# Altium schematic symbol library SHILD_s.SchLib: 13 symbols
Pins are listed as number, name and electrical type; pins without a type are passive.

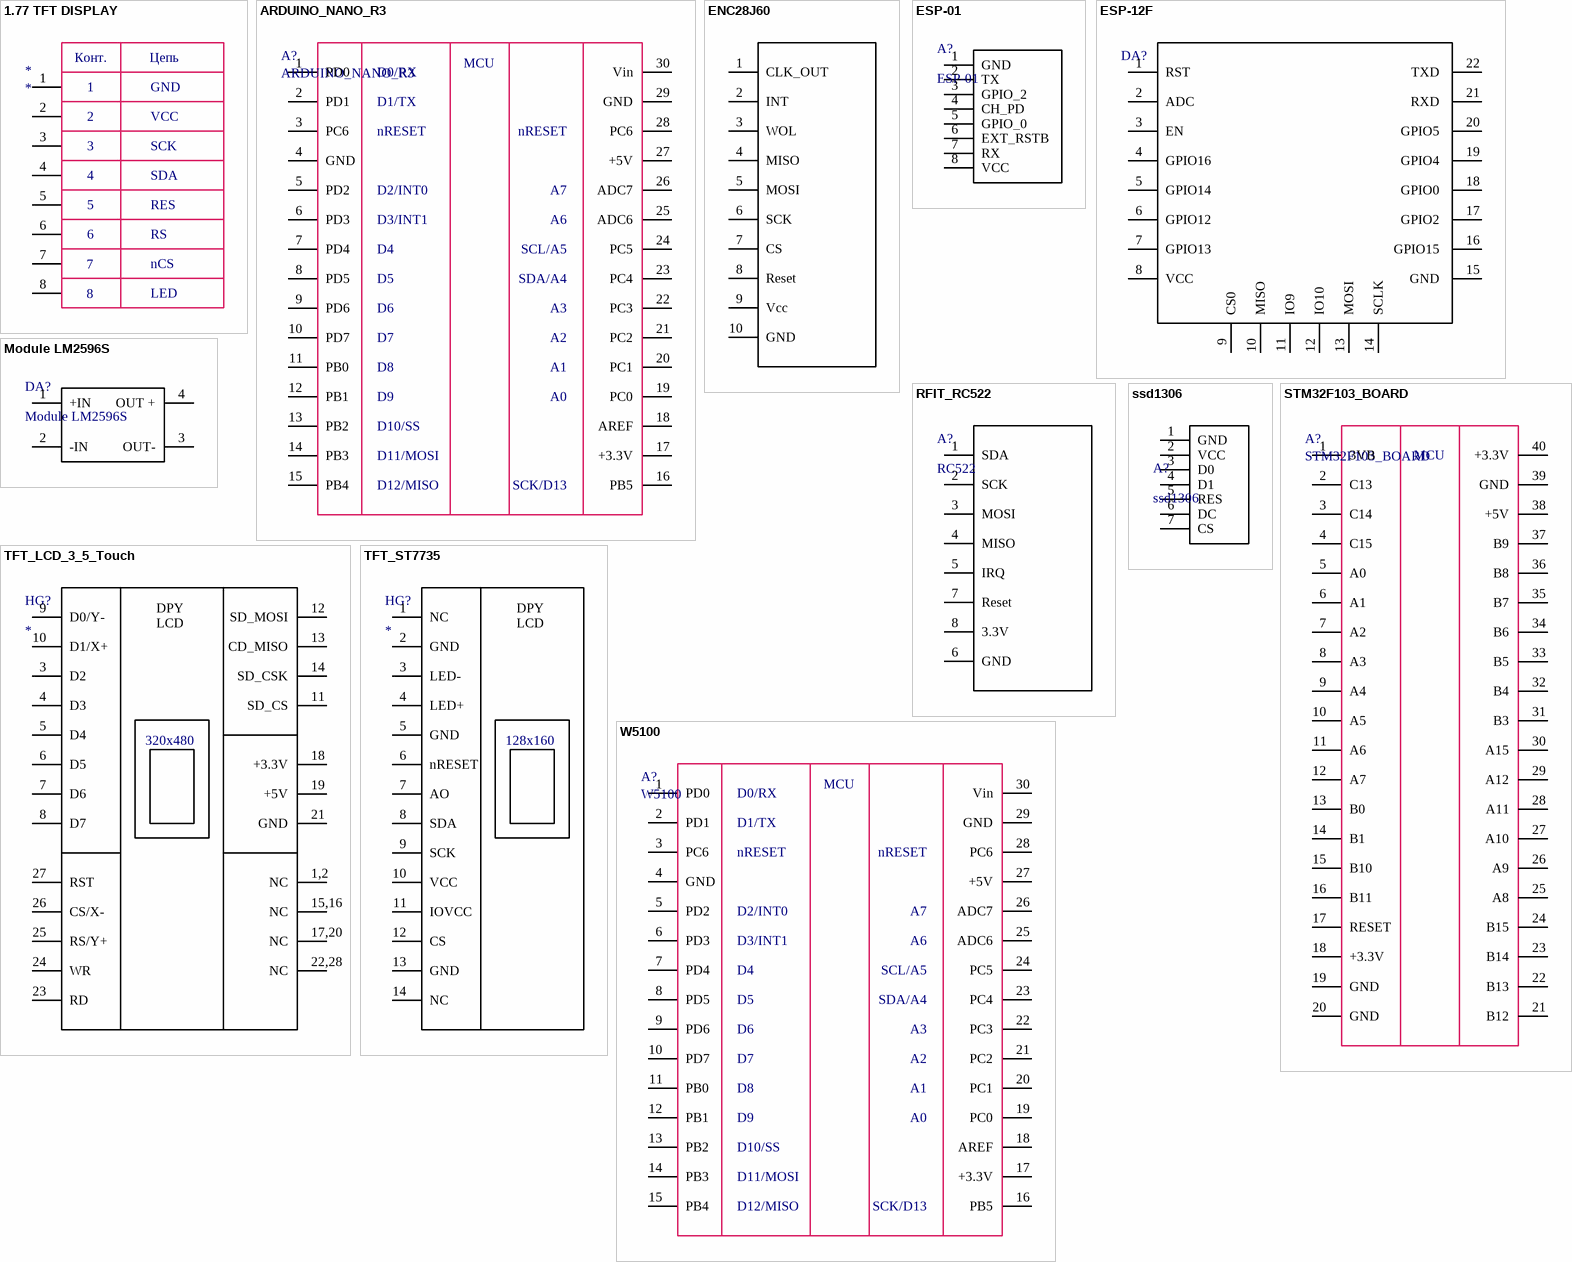
[diagram p0: symbols 1.77 TFT DISPLAY to W5100]

## 1.77 TFT DISPLAY
designator *
footprint ST7735S_board
pins: 1, 2, 3, 4, 5, 6, 7, 8
text: Конт.; Цепь; GND; VCC; SCK; SDA; RES; RS; nCS; LED

## ARDUINO_NANO_R3
designator A?
footprint ARDUINO_NANO_R3
pins: 1 PD0, 2 PD1, 3 PC6, 4 GND, 5 PD2, 6 PD3, 7 PD4, 8 PD5, 9 PD6, 10 PD7, 11 PB0, 12 PB1, 13 PB2, 14 PB3, 15 PB4, 16 PB5, 17 +3.3V, 18 AREF, 19 PC0, 20 PC1, 21 PC2, 22 PC3, 23 PC4, 24 PC5, 25 ADC6, 26 ADC7, 27 +5V, 28 PC6, 29 GND, 30 Vin
text: D0/RX; MCU; D1/TX; nRESET; D2/INT0; A7; D3/INT1; A6; D4; SCL/A5; D5; SDA/A4; D6; A3; D7; A2; D8; A1; D9; A0; D10/SS; D11/MOSI; D12/MISO; SCK/D13

## ENC28J60
designator A?  (value not drawn)
Rem: *; Package: *; Value: *; Tolerance: *; Power/Voltage: *; TKE: *; ManufacturerPartNumber: *; Manufacturer: *; Quantity: *; Примечание: *
footprint ENC28J60
pins: 1 CLK_OUT, 2 INT, 3 WOL, 4 MISO, 5 MOSI, 6 SCK, 7 CS, 8 Reset, 9 Vcc, 10 GND

## ESP-01
designator A?
footprint ESP-01
pins: 1 GND, 2 TX, 3 GPIO_2, 4 CH_PD, 5 GPIO_0, 6 EXT_RSTB, 7 RX, 8 VCC

## ESP-12F
designator DA?  (value not drawn)
Rem: *; Package: *; Value: *; Tolerance: *; Power/Voltage: *; TKE: *; ManufacturerPartNumber: *; Manufacturer: *; Quantity: *; Примечание: *
footprint ESP-12F
pins: 1 RST , 2 ADC , 3 EN , 4 GPIO16 , 5 GPIO14 , 6 GPIO12 , 7 GPIO13 , 8 VCC , 9 CS0 , 10 MISO , 11 IO9 , 12 IO10 , 13 MOSI , 14 SCLK , 15 GND , 16 GPIO15 , 17 GPIO2 , 18 GPIO0 , 19 GPIO4 , 20 GPIO5 , 21 RXD , 22 TXD 

## Module LM2596S
designator DA?
footprint Module LM2596S
pins: 1 +IN, 2 -IN, 3 OUT-, 4 OUT +

## RFIT_RC522
designator A?, comment RC522
Rem: *; Package: *; Value: RC522; Tolerance: *; Power/Voltage: *; TKE: *; ManufacturerPartNumber: *; Manufacturer: *; Quantity: *; Примечание: *
footprint RC522
footprint RC522_TopFaseDown
pins: 1 SDA, 2 SCK, 3 MOSI, 4 MISO, 5 IRQ, 6 GND, 7 Reset, 8 3.3V

## ssd1306
designator A?
footprint ssd1306
pins: 1 GND, 2 VCC, 3 D0, 4 D1, 5 RES, 6 DC, 7 CS

## STM32F103_BOARD
designator A?
footprint STM32F103_BOARD
pins: 1 3VB, 2 C13, 3 C14, 4 C15, 5 A0, 6 A1, 7 A2, 8 A3, 9 A4, 10 A5, 11 A6, 12 A7, 13 B0, 14 B1, 15 B10, 16 B11, 17 RESET, 18 +3.3V, 19 GND, 20 GND, 21 B12, 22 B13, 23 B14, 24 B15, 25 A8, 26 A9, 27 A10, 28 A11, 29 A12, 30 A15, 31 B3, 32 B4, 33 B5, 34 B6, 35 B7, 36 B8, 37 B9, 38 +5V, 39 GND, 40 +3.3V
text: MCU

## TFT_LCD_3_5_Touch
designator HG?
footprint TFT_LCD
pins: 1,2 NC, 3 D2, 4 D3, 5 D4, 6 D5, 7 D6, 8 D7, 9 D0/Y-, 10 D1/X+, 11 SD_CS, 12 SD_MOSI, 13 CD_MISO, 14 SD_CSK, 15,16 NC, 17,20 NC, 18 +3.3V, 19 +5V, 21 GND, 22,28 NC, 23 RD, 24 WR, 25 RS/Y+, 26 CS/X-, 27 RST
text: DPY / LCD; 320x480

## TFT_ST7735
designator HG?
footprint TFT_128x160
pins: 1 NC, 2 GND, 3 LED-, 4 LED+, 5 GND, 6 nRESET, 7 AO, 8 SDA, 9 SCK, 10 VCC, 11 IOVCC, 12 CS, 13 GND, 14 NC
text: DPY / LCD; 128x160

## W5100
designator A?
footprint W5100_shild
pins: 1 PD0, 2 PD1, 3 PC6, 4 GND, 5 PD2, 6 PD3, 7 PD4, 8 PD5, 9 PD6, 10 PD7, 11 PB0, 12 PB1, 13 PB2, 14 PB3, 15 PB4, 16 PB5, 17 +3.3V, 18 AREF, 19 PC0, 20 PC1, 21 PC2, 22 PC3, 23 PC4, 24 PC5, 25 ADC6, 26 ADC7, 27 +5V, 28 PC6, 29 GND, 30 Vin
text: D0/RX; MCU; D1/TX; nRESET; D2/INT0; A7; D3/INT1; A6; D4; SCL/A5; D5; SDA/A4; D6; A3; D7; A2; D8; A1; D9; A0; D10/SS; D11/MOSI; D12/MISO; SCK/D13

## РЫБА
designator A?  (value not drawn)
Rem: *; Package: *; Value: *; Tolerance: *; Power/Voltage: *; TKE: *; ManufacturerPartNumber: *; Manufacturer: *; Quantity: *; Примечание: *